# Altium integrated library XH 4PIN.IntLib: 1 symbol
Pins are listed as number, name and electrical type; pins without a type are passive.

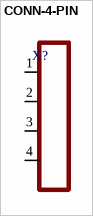
[diagram p0: symbol CONN-4-PIN]

## CONN-4-PIN
designator X?
footprint CONN-PLS-4-2.54mm
pins: 1, 2, 3, 4